# Altium footprint library SMD_7050.PcbLib: 1 footprints
Each footprint in its own frame and in the unit in brackets; x right, y up, seen from the top. Pads: shape width x height; smd on the part's side, far side on the other; paste and mask are expansions set on the pad; w line width, h text height; cw(c..) or ccw(c..) is an arc to the next point about the centre after c.
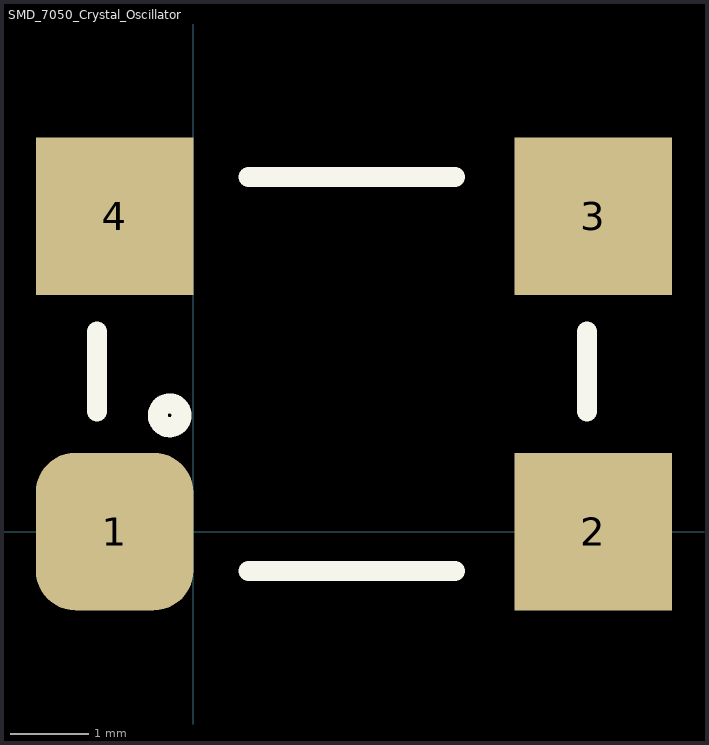
[diagram p0: the footprint, top view; thin cyan lines are the x and y axes]

## SMD_7050_Crystal_Oscillator [mm]
pads (4):
  rrect50% 2x2 smd: 1(-1,0)
  rect 2x2 smd: 2(5.08,0) 3(5.08,4) 4(-1,4)
Top Overlay:
  circle w0.254: c-0.3,1.475 r0.152
  lines w0.254: -1.225,1.524 -1.225,2.54 ; 0.7,-0.5 3.325,-0.5 ; 0.7,4.5 3.325,4.5 ; 5,1.524 5,2.54
3D body "SMD_7050_Crystall Oscillator.STEP": height 1.52, standoff 0, extent -1.4,-0.52 5.6,4.5